# Altium schematic symbol library SMT Chip.SchLib: 7 symbols
Pins are listed as number, name and electrical type; pins without a type are passive.

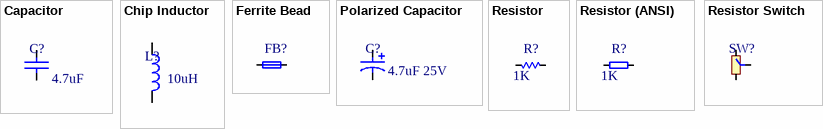
[diagram p0: symbols Capacitor to Resistor Switch]

## Capacitor
designator C?  value 4.7uF  (hidden comment: *)
Manufacturer: Murata; Part No.: GRM188xxxxxxxxx; Vendor: Mouser; Price Est.: $0.10
footprint 0603 (1608) (Chip 2-Leads 0603 (1608))
footprint 0805 (2012) (Chip 2-Leads, IPC Medium Density (2012))
footprint 0603 (1608) RECT (Chip 2-Leads 0603 Rectangular Silk Screen (1608))
footprint 0805 (2012) RECT (Chip 2-Leads 0805 Rectangular Silk Screen (2012))
footprint 1206 (3216) (Chip 2-Leads 1206 Body 3.2x2.1mm (3216))
footprint 1206 (3216) RECT (Chip 2-Leads 1206 Body 3.2x2.1mm (3216))
footprint 1210 (3225) (Chip  2-Leads 1210 Body 3.2x2.5mm Rectangular Silk Screen (3225))
footprint 1210 (3225) RECT (Chip  2-Leads 1210 Body 3.2x2.5mm Rectangular Silk Screen (3225))
footprint 0402 (1005) (Chip 2-Leads 0402 Body 1.0x0.5mm (1005))
footprint 0402 (1005) RECT (Chip 2-Leads 0402 Body 1.0x0.5mm (1005) Rectangular Silk Screen (1608))
pins: 1, 2

## Chip Inductor
designator L?  value 10uH  (hidden comment: *)
Inductor; Manufacturer: Kemet; Part No.: L0806C100KPWST; Vendor: Mouser; Price Est.: $0.31
footprint 0805 (2012) BRACKET (Chip 2-Leads 0805 Bracket Silk Screen (2012))
pins: 1, 2

## Ferrite Bead
designator FB?  (value not drawn)
Ferrite Bead; Part No.: BLM18PG330SN1D; Manufacturer: Murata; Vendor: Mouser; Note: 33 Ohms Impedance 0.025ohm Resistance 25% Tol 3A Current Limit; Price Est.: $0.05
footprint 0603 (1608) (Chip 2-Leads 0603 (1608))
footprint 0603 (1608) RECT (Chip 2-Leads 0603 Rectangular Silk Screen (1608))
pins: 1, 2

## Polarized Capacitor
designator C?  value 4.7uF 25V  (hidden comment: *)
Manufacturer: Vishay/Sprague; Part No.: 593Dxxxxxxx; Vendor: Mouser; Price Est.: $0.30
footprint 3528 (TANT B) (Tantalum SMT Case B 3528)
footprint 0805 Polarized
footprint 7343 (TANT E) (Tantalum SMT Case E 7343)
footprint 6032 (TANT C) (Tantalum SMT Case C 6032-28)
footprint Electrolytic 5x5.8 (C/E55) (5mm Dia 5.8mm Height Electrolytic Cap (United Chemi-Con E55 / Panasonic C))
footprint Electrolytic 6.3x5.8 (F60/D) (6.3mm Dia 5.8mm Height Electrolytic Cap (United Chemi-Con F60 / Panasonic D))
footprint Electrolytic 6.3x7.7 (F80/D8) (6.3mm Dia 7.7mm Height Electrolytic Cap (United Chemi-Con F80 / Panasonic D8))
footprint Electrolytic 8x6.2 (E) (8mm Dia 6.2mm Height Electrolytic Cap (Panasonic E))
footprint Electrolytic 8x10 (HA0/F) (8mm Dia 10mm Height Electrolytic Cap (United Chemi-Con HA0 / Panasonic F))
footprint Electrolytic 10x10 (JA0/G) (10mm Dia 10mm Height Electrolytic Cap (United Chemi-Con JA0 / Panasonic G))
pins: 1, 2

## Resistor
designator R?  value 1K  (hidden comment: *)
Resistor; Part No.: CRCW06031K00xxxxxxxxxx; Part No. Ref: CRCW[PACKAGE][VALUE]; Manufacturer: Vishay / Dale; Vendor: Mouser; Price Est.: $0.06
footprint 0603 (1608) BRACKET (Chip 2-Leads 0603 Bracket (1608))
footprint 0805 (2012) BRACKET (Chip 2-Leads 0805 Bracket Silk Screen (2012))
footprint 0603 (1608) (Chip 2-Leads 0603 (1608))
footprint 0805 (2012) (Chip 2-Leads, IPC Medium Density (2012))
footprint 0402 (1005) (Chip 2-Leads 0402 Body 1.0x0.5mm (1005))
footprint 0402 (1005) BRACKET (Chip 2-Leads 0402 Body 1.0x0.5mm Bracket Silk Screen (1005))
simulation model RES (Default semiconductor resistor)
footprint 2512 BRACKET (Chip Resistor 2512 BRACKET)
pins: 1, 2

## Resistor (ANSI)
designator R?  value 1K  (hidden comment: *)
Resistor (ANSI); Part No.: CRCW06031K00xxxxxxxxxxx; Part No. Ref: CRCW[PACKAGE][VALUE]; Manufacturer: Vishay / Dale; Vendor: Mouser; Price Est.: $0.06
footprint 0603 SS_BRACKET (Chip 2-Leads, IPC Medium Density)
footprint 0805 SS_BRACKET (Chip 2-Leads, IPC Medium Density)
footprint 0603 (Chip 2-Leads 0603)
footprint 0805 (Chip 2-Leads, IPC Medium Density)
simulation model RES (Default semiconductor resistor)
pins: 0, 1

## Resistor Switch
designator SW?  (value not drawn)
SMT Resistor Switch; Part No.: CRCW06030000Z0EB; Manufacturer: Vishay / Dale; Vendor: Mouser; Price Est.: $0.06
footprint 0603 SMT Switch (1608) BRACKET (0603 Switch Bracket (1608))
pins: 1, 2, 3